# Altium footprint library LCC-8.PcbLib: 1 footprints
Each footprint in its own frame and in the unit in brackets; x right, y up, seen from the top. Pads: shape width x height; smd on the part's side, far side on the other; paste and mask are expansions set on the pad; w line width, h text height; cw(c..) or ccw(c..) is an arc to the next point about the centre after c.
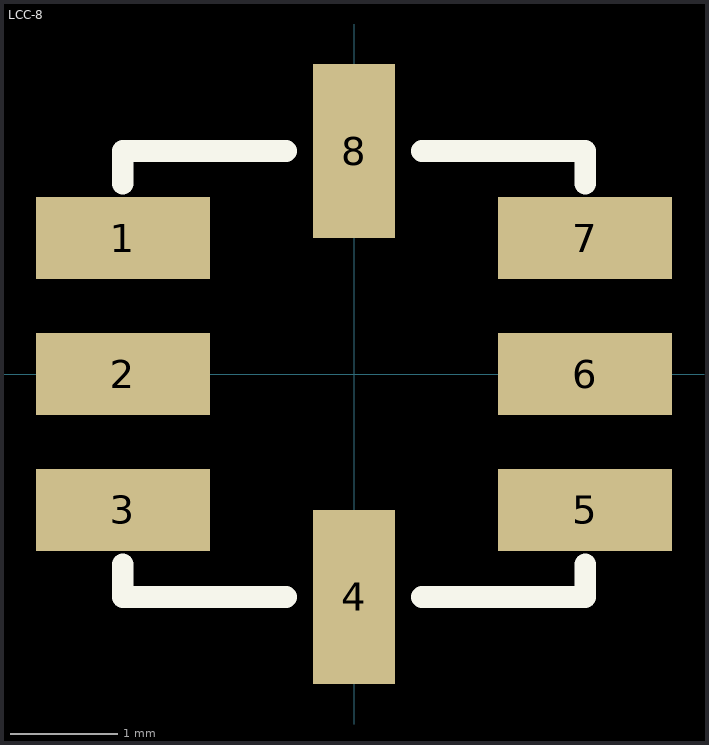
[diagram p0: the footprint, top view; thin cyan lines are the x and y axes]

## LCC-8 [mil]
pads (8):
  rect 64x30 smd: 1(-85,50) 2(-85,0) 3(-85,-50) 5(85,-50) 6(85,0) 7(85,50)
  rect 30x64 smd: 4(0,-82) 8(0,82)
TopOverlay:
  lines w8: -85,-70 -85,-82 -25,-82 ; -85,70 -85,82 -25,82 ; 25,-82 85,-82 85,-70 ; 25,82 85,82 85,70
  text "." at 4,24 h50
3D body: height 78, standoff 0, extent -98.5,-98.5 98.5,98.5